# EAGLE library part DRA818V (library custom-ds)
DRA818V is a compact wireless voice transceiver from Dorji. http://www.dorji.com/pro/Modules/Audio_voice_transceiver.html
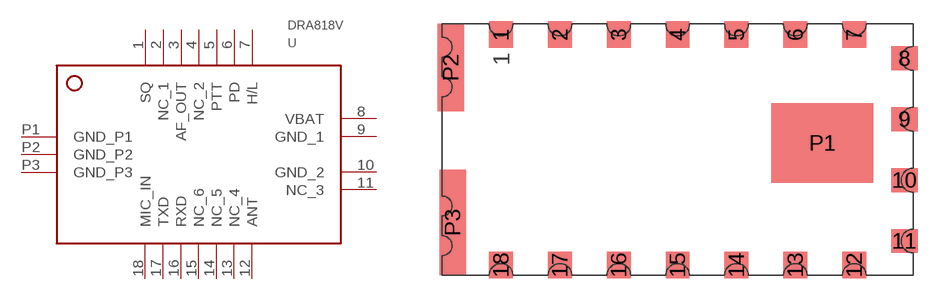
[diagram p0: symbol with the pads of SMD_DRA818; footprint SMD_DRA818]

Designator prefix U

## DRA818V  [SMD_DRA818]
1  SQ
2  NC_1
3  AF_OUT
4  NC_2
5  PTT
6  PD
7  H/L
8  VBAT
9  GND_1
10  GND_2
11  NC_3
12  ANT
13  NC_4
14  NC_5
15  NC_6
16  RXD
17  TXD
18  MIC_IN
P1  GND_P1
P2  GND_P2
P3  GND_P3

## Footprint SMD_DRA818 (pad centres in mm)
DRA818V is a compact wireless voice transceiver from Dorji. http://www.dorji.com/pro/Modules/Audio_voice_transceiver.html
smd 1.8 x 2: 1 -13.35,8.7; 2 -8.9,8.7; 3 -4.45,8.7; 4 0,8.7; 5 4.45,8.7; 6 8.9,8.7; 7 13.35,8.7; 12 13.35,-8.7; 13 8.9,-8.7; 14 4.45,-8.7; 15 0,-8.7; 16 -4.45,-8.7; 17 -8.9,-8.7; 18 -13.35,-8.7
smd 2 x 1.8: 8 17.145,6.9; 9 17.145,2.3; 10 17.145,-2.3; 11 17.145,-6.9
smd 7.7 x 6: P1 10.95,0.5
smd 2 x 6.6: P2 -17.145,6.2
smd 2 x 8: P3 -17,-5.5